# Altium integrated library WS-SLSV_rev15a.intlib: 1 symbol
Pins are listed as number, name and electrical type; pins without a type are passive.

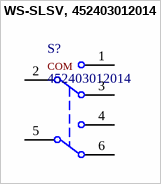
[diagram p0: symbol WS-SLSV, 452403012014]

## WS-SLSV, 452403012014
designator S?, comment 452403012014
WS-SLSV Slide Switch, SMD version, same side connection; Manufacturer: Wurth Elektronik; partNo: 452403012014; ComponentLink1Description: Manufacturer; ComponentLink1URL: http://www.we-online.de; Created by: Baojun Chen; Created Date: Dec.2015; ComponentLink2Description: Datasheet; ComponentLink2URL: http://katalog.we-online.de/em/datasheet/452403012014.pdf
footprint 452403012014 (WS-SLSV Slide Switch, SMD version, same side connection)
pins: 1, 2 COM1, 3, 4, 5 COM2, 6
text: COM